# EAGLE library part TERMINAL_7P (library KF301-2P-Terminal)
KF301-7P Terminal Screw Connector 5mm Pitch
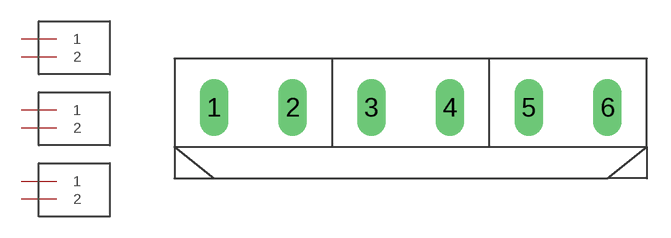
[diagram p0: symbol with the pads of KF301-7P; footprint KF301-7P]

Designator prefix -; gates G$2=TERMINAL_7P G$3=TERMINAL_7P G$1=TERMINAL_7P

## TERMINAL_7P  [KF301-7P]
1  G$1:1
2  G$1:2
3  G$2:1
4  G$2:2
5  G$3:1
6  G$3:2

## Footprint KF301-7P (pad centres in mm)
drill 1.2 pad 1.778 long: 1 -12.5,0; 2 -7.5,0; 3 -2.5,0; 4 2.5,0; 5 7.5,0; 6 12.5,0